# Altium schematic symbol library testMpptCharger.SCHLIB: 15 symbols
Pins are listed as number, name and electrical type; pins without a type are passive.

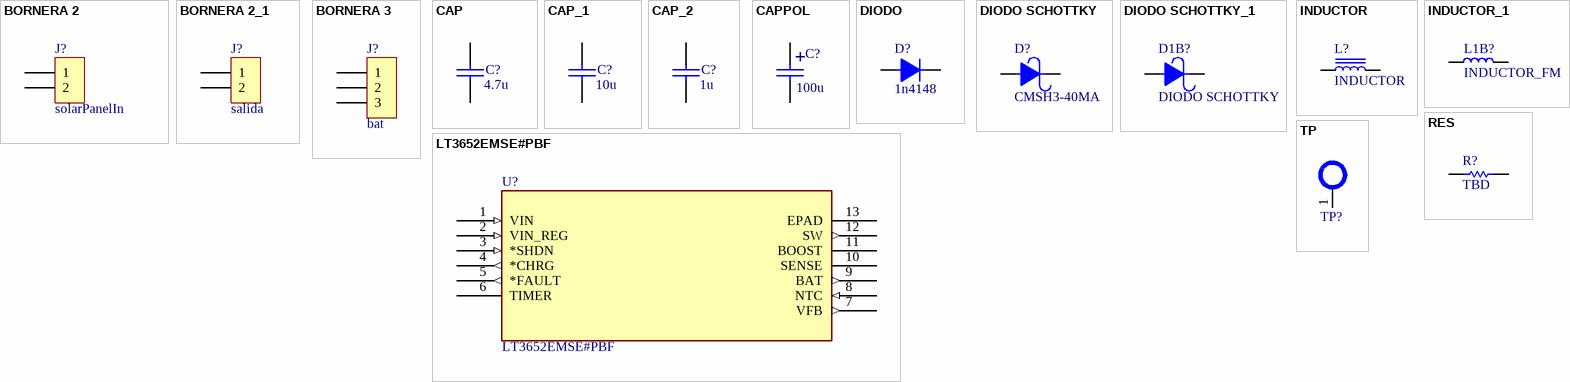
[diagram p0: symbols BORNERA 2 to TP]

## BORNERA 2
designator J?, comment solarPanelIn
footprint BORNERA2 (Bornera con Tornillos 5mm separación)
pins: 1, 2

## BORNERA 2_1
designator J?, comment salida
footprint BORNERA2 (Bornera con Tornillos 5mm separación)
pins: 1, 2

## BORNERA 3
designator J?, comment bat
footprint BORNERA3 (Bornera con Tornillos 5mm separación)
pins: 1, 2, 3

## CAP
designator C?  value 4.7u  (hidden comment: CAP)
footprint 0805 (Pasivo 0805)
footprint 1206 (Pasivo 1206)
footprint 0603 (Footprint not found)
footprint CAP200
footprint CAP100
pins: 1, 2

## CAP_1
designator C?, comment value 10u  (hidden comment: CAP)
footprint 0805 (Pasivo 0805)
footprint 1206 (Pasivo 1206)
footprint 0603 (Footprint not found)
footprint CAP200
footprint CAP100
pins: 1, 2

## CAP_2
designator C?, comment value 1u  (hidden comment: CAP)
footprint 0805 (Pasivo 0805)
footprint 1206 (Pasivo 1206)
footprint 0603 (Footprint not found)
footprint CAP200
footprint CAP100
pins: 1, 2

## CAPPOL
designator C?  value 100u  (hidden comment: CAPPOL)
footprint CAP100RP
footprint CAP200RP
footprint CAP100RP2 (Footprint not found)
footprint CAP200RP2 (Body Diameter 12.5mm)
footprint CAP300RP
pins: 1, 2
text: +

## DIODO
designator D?  value 1n4148  (hidden comment: DIODO)
footprint SMAK
footprint 1206K
footprint DO41
footprint SMBK
footprint SMCK
pins: 1, 2

## DIODO SCHOTTKY
designator D?, comment CMSH3-40MA
footprint SMAK
footprint SMCK
footprint DO41
footprint SMBK
pins: 1, 2

## DIODO SCHOTTKY_1
designator D1B?, comment DIODO SCHOTTKY
footprint SMAK
footprint SMCK
footprint DO41
footprint SMBK
pins: 1, 2

## INDUCTOR
designator L?
footprint WE-PD SERIES (POWER-CHOKE WE-PD)
footprint DO3316
footprint L_IHLP (Footprint para IHLP2525CZER3R3M11)
footprint SRR1210
pins: 1, 2

## INDUCTOR_1
designator L1B?, comment INDUCTOR_FM
footprint INDUCTOR_FM
pins: 1, 2

## LT3652EMSE#PBF
designator U?
Power Tracking 2A Battery Charger for Solar Power; Value: LT3652; Price: 9.23; Digi-Key Part Number: 505-LT3652EMSE#PBF-ND
footprint MSOP-12_MSE
pins: 1 VIN (in), 2 VIN_REG (in), 3 *SHDN (in), 4 *CHRG (out), 5 *FAULT (out), 6 TIMER, 7 VFB (out), 8 NTC (in), 9 BAT (out), 10 SENSE, 11 BOOST, 12 SW (out), 13 EPAD

## RES
designator R?  value TBD  (hidden comment: RES)
footprint 0805 (Chip Resistor, 2-Leads, Body 0,8"x0,5" - 2,0x1,3mm, IPC High Density)
footprint RES400
footprint RES100
footprint RES300
footprint 1206 (Pasivo 1206)
footprint RES500
footprint RES600
footprint RES1200
pins: 1, 2

## TP
designator TP?  (value not drawn)
footprint TP
pins: 1